# EAGLE library part PCM1803A (library MEINZEUG)
Cheap TI 24 Bit ADC, 96 kHz, asymmetrical stereo
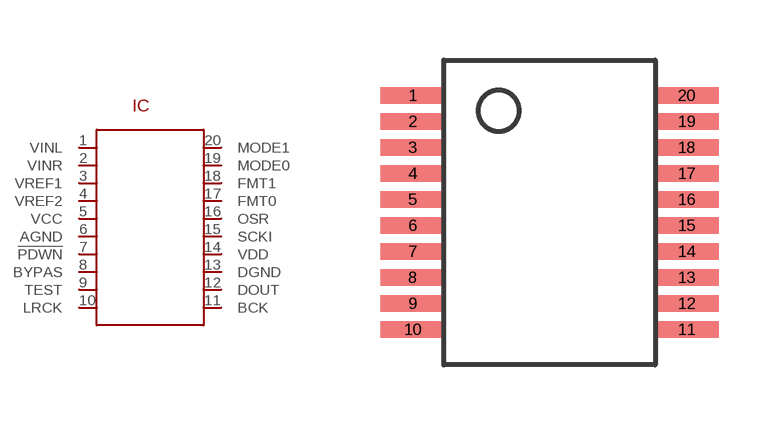
[diagram p6: symbol with the pads of SSOP20; footprint SSOP20]

Designator prefix IC

## PCM1803A  [SSOP20]
1  VINL  in
2  VINR  in
3  VREF1  in
4  VREF2  in
5  VCC  pwr
6  AGND  pwr
7  !PDWN  in
8  BYPAS  in
9  TEST
10  LRCK
11  BCK
12  DOUT  out
13  DGND  pwr
14  VDD  pwr
15  SCKI  in
16  OSR  in
17  FMT0  in
18  FMT1  in
19  MODE0  in
20  MODE1  in

## Footprint SSOP20 (pad centres in mm)
smd 1.62 x 0.42: 1 -3.425,2.925; 2 -3.425,2.275; 3 -3.425,1.625; 4 -3.425,0.975; 5 -3.425,0.325; 6 -3.425,-0.325; 7 -3.425,-0.975; 8 -3.425,-1.625; 9 -3.425,-2.275; 10 -3.425,-2.925; 11 3.425,-2.925; 12 3.425,-2.275; 13 3.425,-1.625; 14 3.425,-0.975; 15 3.425,-0.325; 16 3.425,0.325; 17 3.425,0.975; 18 3.425,1.625; 19 3.425,2.275; 20 3.425,2.925